# Altium schematic symbol library SW_TILT.SchLib: 1 symbol
Pins are listed as number, name and electrical type; pins without a type are passive.

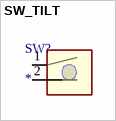
[diagram p0: symbol SW_TILT]

## SW_TILT
designator SW?
pins: 1, 2